# Altium schematic symbol library SCH - AMP AUDIO - ANALOG ADAU1592ACPZ.SchLib: 1 symbol
Pins are listed as number, name and electrical type; pins without a type are passive.

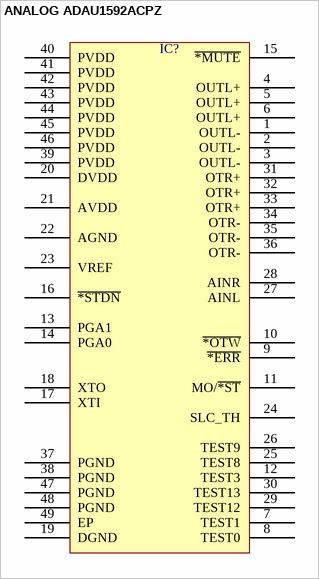
[diagram p0: symbol ANALOG ADAU1592ACPZ]

## ANALOG ADAU1592ACPZ
designator IC?  (value not drawn)
pins: 1 OUTL-, 2 OUTL-, 3 OUTL-, 4 OUTL+, 5 OUTL+, 6 OUTL+, 7 TEST1, 8 TEST0, 9 ~{*ERR}, 10 ~{*OTW}, 11 MO/~{*ST}, 12 TEST3, 13 PGA1, 14 PGA0, 15 ~{*MUTE}, 16 ~{*STDN}, 17 XTI, 18 XTO, 19 DGND, 20 DVDD, 21 AVDD, 22 AGND, 23 VREF, 24 SLC_TH, 25 TEST8, 26 TEST9, 27 AINL, 28 AINR, 29 TEST12, 30 TEST13, 31 OTR+, 32 OTR+, 33 OTR+, 34 OTR-, 35 OTR-, 36 OTR-, 37 PGND, 38 PGND, 39 PVDD, 40 PVDD, 41 PVDD, 42 PVDD, 43 PVDD, 44 PVDD, 45 PVDD, 46 PVDD, 47 PGND, 48 PGND, 49 EP